# EAGLE library part TPS63020 (library X893)
TPS6306x <http://www.ti.com/lit/ds/symlink/tps63061.pdf>
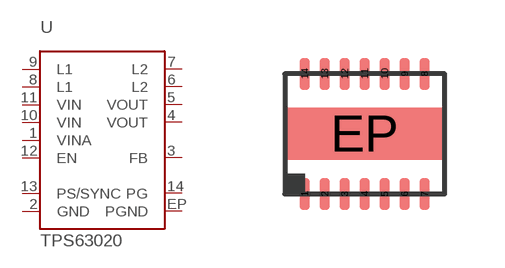
[diagram p235: symbol with the pads of PVSON14; footprint PVSON14]

Designator prefix U

## TPS63020  [PVSON14]
1  VINA  pas
2  GND  pwr
3  FB  pas
4  VOUT  pas
5  VOUT  pas
6  L2  pas
7  L2  pas
8  L1  pas
9  L1  pas
10  VIN  pas
11  VIN  pas
12  EN  in
13  PS/SYNC  in
14  PG  pas
EP  PGND  pas

## Footprint PVSON14 (pad centres in mm)
smd 0.25 x 0.8: 1 -1.5,-1.5; 2 -1,-1.5; 3 -0.5,-1.5; 4 0,-1.5; 5 0.5,-1.5; 6 1,-1.5; 7 1.5,-1.5; 8 1.5,1.5; 9 1,1.5; 10 0.5,1.5; 11 0,1.5; 12 -0.5,1.5; 13 -1,1.5; 14 -1.5,1.5
smd 4 x 1.3: EP 0,0